# Altium schematic symbol library AQV212.SchLib: 1 symbol
Pins are listed as number, name and electrical type; pins without a type are passive.

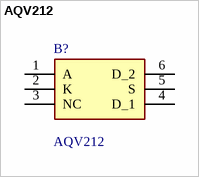
[diagram p0: symbol AQV212]

## AQV212
designator B?
Solid State Relays - PCB Mount 550MA 60V 6PIN SPST; Manufacturer_Name: Panasonic; Geometry.Height: 4.1mm; Mouser Part Number: 769-AQV212; Mouser Price/Stock: https://www.mouser.co.uk/ProductDetail/Panasonic-Industrial-Devices/AQV212?qs=mTeSeKeuVA4GB1tVP0FFxg%3D%3D; Manufacturer_Part_Number: AQV212; Datasheet Link: https://na.industrial.panasonic.com/products/relays/semiconductor-relays/photomos-relays/series/photomos-gu-1-form-dip6-pin-type/1922/model/AQV212
footprint DIP762W47P254L880H410Q6N
pins: 1 A, 2 K, 3 NC, 4 D_1, 5 S, 6 D_2